# Altium footprint library SparkFun-LED.PCBLIB: 30 footprints (part 1 of 2)
Each footprint in its own frame and in the unit in brackets; x right, y up, seen from the top. Pads: shape width x height; smd on the part's side, far side on the other; paste and mask are expansions set on the pad; w line width, h text height; cw(c..) or ccw(c..) is an arc to the next point about the centre after c.
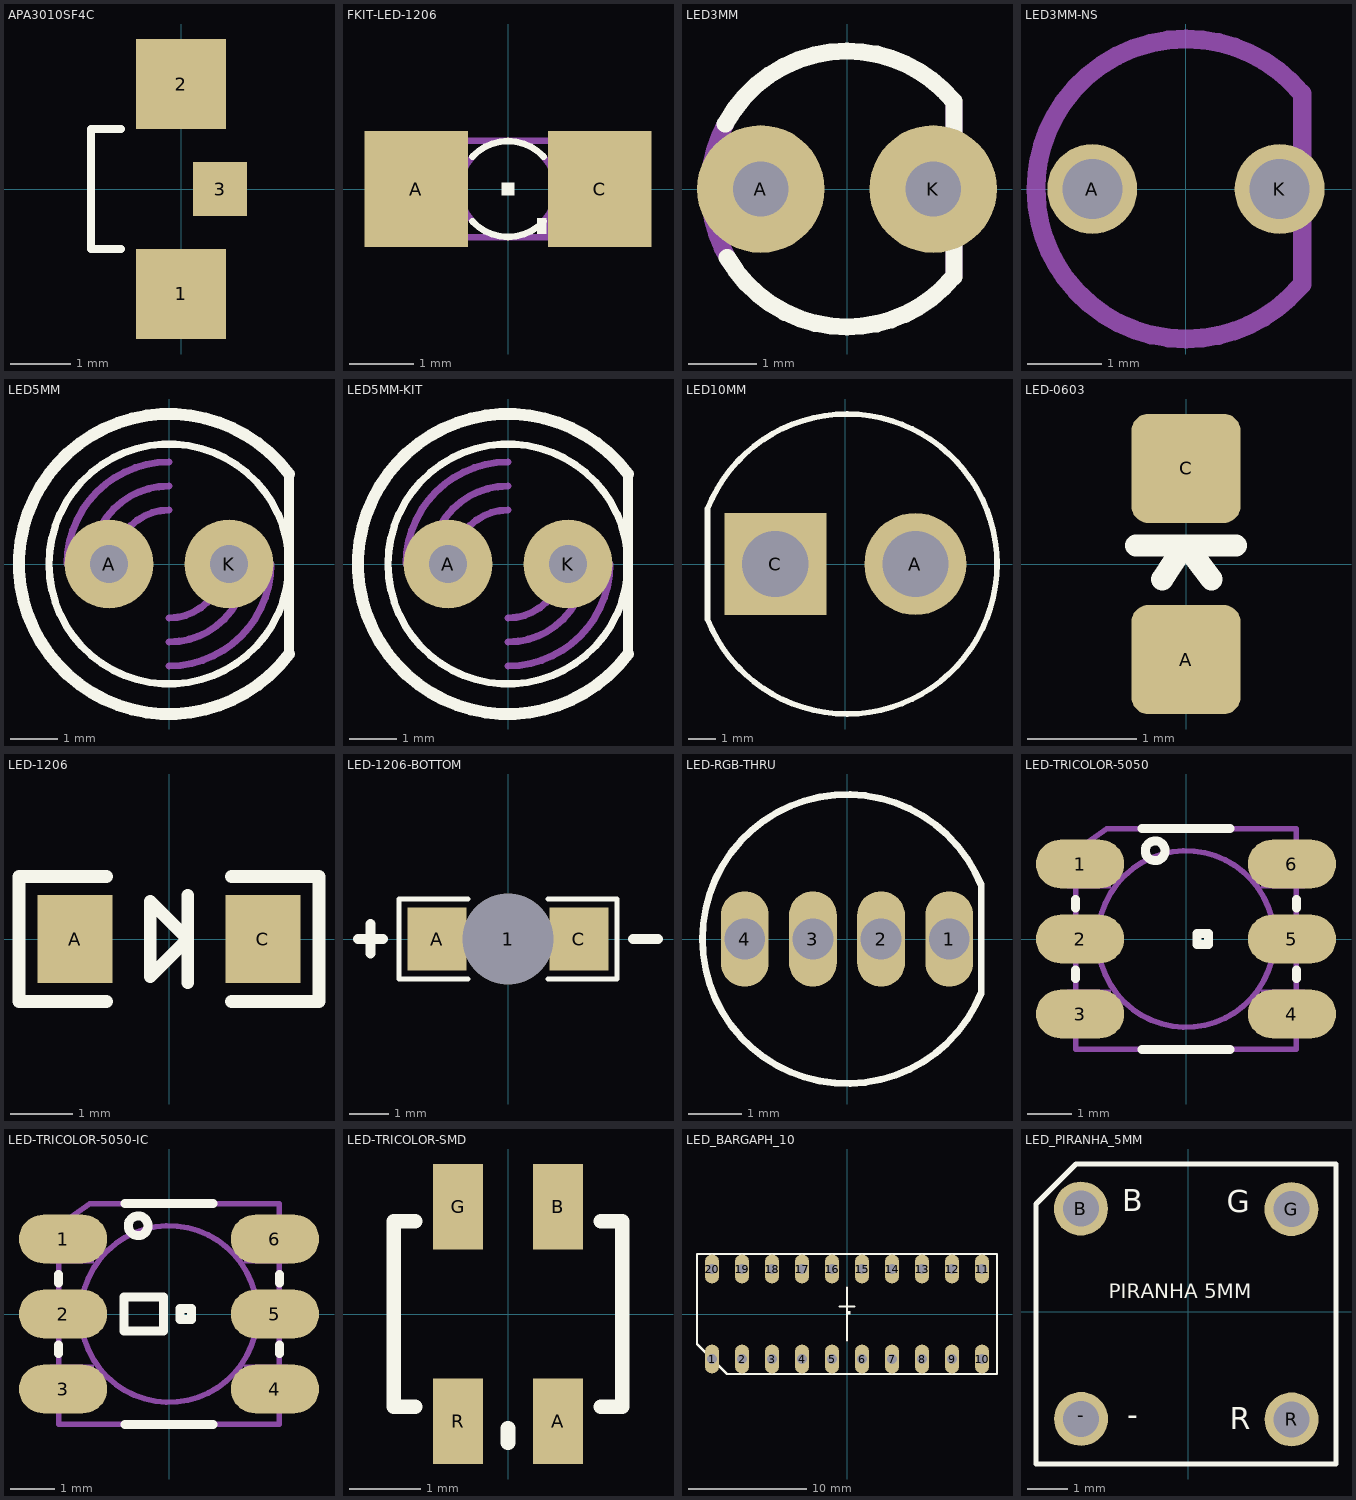
[diagram p0: the footprints below, top view; thin cyan lines are the x and y axes]

## APA3010SF4C [mm]
pads (3):
  rect 1.5x1.5 smd: 1(0,-1.75) 2(0,1.75)
  rect 0.9x0.9 smd: 3(0.65,0)
Top Overlay:
  lines w0.127: -1,-1 -1.5,-1 -1.5,1 -1,1

## FKIT-LED-1206 [mm]
pads (2):
  rect 1.6x1.803 smd: A(-1.422,0) C(1.422,0)
Top Overlay:
  rectangle: -0.1,-0.1 0.1,0.1
  rectangle: 0.45,-0.7 0.6,-0.45
  lines w0.102: -0.55,-0.5 ccw(c0,0) 0.55,-0.5 ; -0.55,0.5 cw(c0,0) 0.55,0.5
Mechanical 16:
  rectangle: 0.45,-0.7 0.8,-0.45
  rectangle: 0.8,-0.7 0.9,0.5
  rectangle: 0.8,0.55 0.9,0.7
  rectangle: -0.9,-0.7 -0.8,0.5
  rectangle: -0.9,0.55 -0.8,0.7
  lines w0.102: -0.55,-0.5 cw(c0,0) -0.55,0.5 ; 0.55,-0.5 ccw(c0,0) 0.55,0.5 ; -1.55,-0.75 1.55,-0.75 1.55,0.75 -1.55,0.75 -1.55,-0.75

## LED3MM [mil]
pads (2):
  round 74 hole 32: A(-50,0) K(50,0)
Top Overlay:
  lines w10: -70.59,37.65 cw(c0,0) 0,80 cw(c0.01,0) 61.46,51.22 ; -69.46,-39.69 ccw(c0,0) 0,-80 ccw(c0,0) 61.07,-51.68 ; 62,-51 62,-33 ; 62,31 62,51
Mechanical 16:
  lines w10: -70.44,37.93 ccw(c0,0.01) -80,0 ccw(c0,0) -68.13,-41.93 ; 62,-50 62,50

## LED3MM-NS [mil]
pads (2):
  round 48 hole 32: A(-50,0) K(50,0)
Mechanical 16:
  lines w10: -70.59,37.65 cw(c0,0) 0,80 cw(c0.01,0) 61.46,51.22 ; -70.44,37.93 ccw(c0,0.01) -80,0 ccw(c0,0) -68.13,-41.93 ; -69.46,-39.69 ccw(c0,0) 0,-80 ccw(c0,0) 61.07,-51.68 ; 62,-51 62,-33 ; 62,-50 62,50 ; 62,31 62,51

## LED5MM [mil]
pads (2):
  round 74 hole 32: A(-50,0) K(50,0)
Top Overlay:
  circle w6: c0,0 r100
  lines w8: 100,-75 100,75
  lines w10: 100,-75 cw(c0,0) 100,75
Mechanical 16:
  lines w6: -85,0 cw(c0,0) 0,85 ; -65,0 cw(c0,0) 0,65 ; -45,0 cw(c0,0) 0,45 ; 0,-85 ccw(c0,0) 85,0 ; 0,-65 ccw(c0,0) 65,0 ; 0,-45 ccw(c0,0) 45,0

## LED5MM-KIT [mil]
pads (2):
  round 74 hole 32: A(-50,0) K(50,0)
Top Overlay:
  circle w6: c0,0 r100
  lines w8: 100,-75 100,75
  lines w10: 100,-75 cw(c0,0) 100,75
Top Solder:
  region: 0,0 10,0 10,10 0,10
  region: 0,0 10,0 10,10 0,10
Bottom Solder:
  region: 0,0 10,0 10,10 0,10
  region: 0,0 10,0 10,10 0,10
Mechanical 16:
  lines w6: -85,0 cw(c0,0) 0,85 ; -65,0 cw(c0,0) 0,65 ; -45,0 cw(c0,0) 0,45 ; 0,-85 ccw(c0,0) 85,0 ; 0,-65 ccw(c0,0) 65,0 ; 0,-45 ccw(c0,0) 45,0

## LED10MM [mm]
pads (2):
  round 3.7 hole 2.4: A(2.54,0)
  rect 3.7x3.7 hole 2.4: C(-2.54,0)
Top Overlay:
  lines w0.203: -5,-2 ccw(c0.059,0) -5,2 -5,-2
Mechanical 16:
  text "L" at 2.159,2.54 h1.57
  text "S" at -2.921,2.54 h1.57

## LED-0603 [mm]
pads (2):
  rrect30% 1x1 smd: A(0,-0.877) C(0,0.877)
Top Overlay:
  lines w0.203: -0.46,0.17 0,0.17 ; -0.218,-0.14 -0.025,0.155 ; 0.234,-0.14 0,0.17 ; 0.46,0.17 0,0.17

## LED-1206 [mm]
pads (2):
  rect 1.2x1.4 smd: A(-1.5,0) C(1.5,0)
Top Overlay:
  lines w0.203: -1,-1 -2.4,-1 -2.4,1 -1,1 ; 0.3,-0.7 0.3,0 ; 0.3,0.7 0.3,0 ; 1,-1 2.4,-1 2.4,1 1,1 ; 0.3,0 -0.3,0.6 -0.3,-0.6 0.3,0

## LED-1206-BOTTOM [mm]
pads (3):
  round 2.3 hole 2.3: 1(0,0)
  rect 1.5x1.6 smd: A(-1.8,0) C(1.8,0)
Top Overlay:
  lines w0.127: -1.016,-1.016 -2.769,-1.016 -2.769,1.016 -1.016,1.016 ; 1.016,-1.016 2.769,-1.016 2.769,1.016 1.016,1.016 ; 3.175,0 3.353,0
  lines w0.254: -3.81,0 -3.175,0 ; -3.49,0.376 -3.487,0.373 -3.487,-0.371 ; -3.487,-0.368 -3.487,0.356 ; 3.175,0 3.81,0
Mechanical 14:
  lines w0.127: -2.4,0 -1.6,0 ; -2,-0.4 -2,0.4 ; -1.27,0 -0.381,0 ; 0.254,-0.635 0.254,0 ; 0.254,0.635 0.254,0 ; 1.27,0 0.254,0 ; 1.6,0 2.4,0 ; -0.381,0 -0.381,0.635 0.254,0 ; -0.381,0 -0.381,-0.635 0.254,0
Mechanical 16:
  rectangle: -0.75,-0.75 0.75,0.75
  region: 0,0 0.254,0 0.254,0.254 0,0.254
  region: 0,0 0.254,0 0.254,0.254 0,0.254

## LED-RGB-THRU [mil]
pads (4):
  oval 35x70 hole 30: 1(75,0) 2(25,0) 3(-25,0) 4(-75,0)
Top Overlay:
  lines w5: 98.43,-39.37 98.43,39.37 ccw(c0.01,0) 98.43,-39.37

## LED-TRICOLOR-5050 [mm]
pads (6):
  rrect100% 2x1.1 smd: 1(-2.4,1.7) 2(-2.4,0) 3(-2.4,-1.7) 4(2.4,-1.7) 5(2.4,0) 6(2.4,1.7)
Top Overlay:
  circle w0.203: c-0.7,2 r0.224
  lines w0.203: -2.5,-0.9 -2.5,-0.7 ; -2.5,0.7 -2.5,0.9 ; -1,-2.5 1,-2.5 ; -1,2.5 1,2.5 ; 2.5,-0.9 2.5,-0.7 ; 2.5,0.7 2.5,0.9 ; 0.254,-0.127 0.254,0.127 0.508,0.127 0.508,-0.127 0.254,-0.127
Mechanical 16:
  circle w0.127: c0,0 r2
  rectangle: 1.7,-0.45 2.7,0.45
  rectangle: 1.7,1.15 2.7,2.05
  rectangle: 1.7,-2.05 2.7,-1.15
  region: -1.7,2.05 -2.7,2.05 -2.7,1.15 -1.7,1.15
  region: -1.7,0.45 -2.7,0.45 -2.7,-0.45 -1.7,-0.45
  region: -1.7,-1.15 -2.7,-1.15 -2.7,-2.05 -1.7,-2.05
  lines w0.127: -2.5,-2.5 -2.5,2 -1.8,2.5 2.5,2.5 2.5,-2.5 -2.5,-2.5

## LED-TRICOLOR-5050-IC [mm]
pads (6):
  rrect100% 2x1.1 smd: 1(-2.4,1.7) 2(-2.4,0) 3(-2.4,-1.7) 4(2.4,-1.7) 5(2.4,0) 6(2.4,1.7)
Top Overlay:
  circle w0.203: c-0.7,2 r0.224
  lines w0.203: -2.5,-0.9 -2.5,-0.7 ; -2.5,0.7 -2.5,0.9 ; -1,-2.5 1,-2.5 ; -1,2.5 1,2.5 ; 2.5,-0.9 2.5,-0.7 ; 2.5,0.7 2.5,0.9 ; -1.016,-0.381 -1.016,0.381 -0.127,0.381 -0.127,-0.381 -1.016,-0.381 ; 0.254,-0.127 0.254,0.127 0.508,0.127 0.508,-0.127 0.254,-0.127
Mechanical 16:
  circle w0.127: c0,0 r2
  rectangle: 1.7,-0.45 2.7,0.45
  rectangle: 1.7,1.15 2.7,2.05
  rectangle: 1.7,-2.05 2.7,-1.15
  region: -1.7,2.05 -2.7,2.05 -2.7,1.15 -1.7,1.15
  region: -1.7,0.45 -2.7,0.45 -2.7,-0.45 -1.7,-0.45
  region: -1.7,-1.15 -2.7,-1.15 -2.7,-2.05 -1.7,-2.05
  lines w0.127: -2.5,-2.5 -2.5,2 -1.8,2.5 2.5,2.5 2.5,-2.5 -2.5,-2.5

## LED-TRICOLOR-SMD [mm]
pads (4):
  rect 0.7x1.2 smd: A(0.7,-1.5) B(0.7,1.5) G(-0.7,1.5) R(-0.7,-1.5)
Top Overlay:
  lines w0.203: -1.3,-1.3 -1.6,-1.3 -1.6,1.3 -1.3,1.3 ; 0,-1.8 0,-1.6 ; 1.3,-1.3 1.6,-1.3 1.6,1.3 1.3,1.3

## LED_BARGAPH_10 [mil]
pads (20):
  oval 48x96 hole 32: 1(-450,-150) 2(-350,-150) 3(-250,-150) 4(-150,-150) 5(-50,-150) 6(50,-150) 7(150,-150) 8(250,-150) 9(350,-150) 10(450,-150) 11(450,150) 12(350,150) 13(250,150) 14(150,150) 15(50,150) 16(-50,150) 17(-150,150) 18(-250,150) 19(-350,150) 20(-450,150)
Top Overlay:
  region: 0,0 10,0 10,10 0,10
  lines w8: -25,25 25,25 ; 0,-87.5 0,87.5 ; -500,-100 -400,-200 500,-200 500,200 -500,200 -500,-100

## LED_PIRANHA_5MM [mm]
pads (4):
  round 1.35 hole 0.9: -(-2.684,-2.684) B(-2.688,2.574) G(2.575,2.562) R(2.579,-2.696)
Top Overlay:
  lines w0.127: -3.81,-3.81 3.69,-3.81 3.69,3.69 -2.81,3.69 -3.81,2.69 -3.81,-3.81
  text "B" at -1.65,2.323 h0.94
  text "G" at 0.962,2.298 h0.94
  text "R" at 1.037,-3.131 h0.94
  text "-" at -1.524,-3.031 h0.94
  text "PIRANHA 5MM" at -1.989,0.209 h0.63